# EAGLE library part DIL14-6 (library mylib)
DIL15-6 DIL 14PIN 600mil
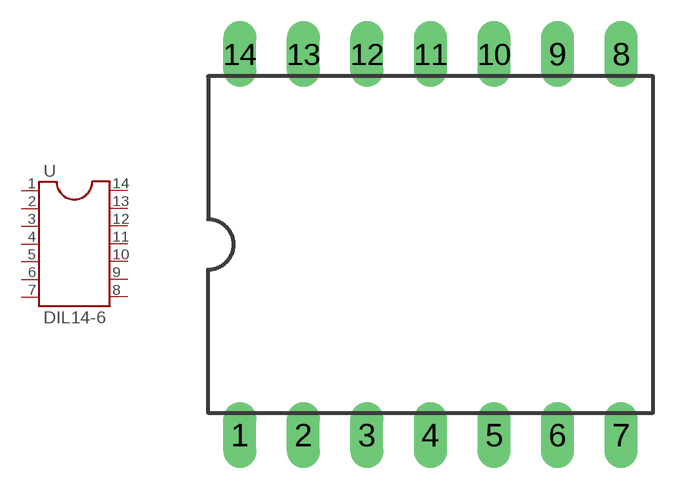
[diagram p0: symbol with the pads of DIL14-6; footprint DIL14-6]

Designator prefix -

## DIL14-6  [DIL14-6]
1  1  pas
2  2  pas
3  3  pas
4  4  pas
5  5  pas
6  6  pas
7  7  pas
8  8  pas
9  9  pas
10  10  pas
11  11  pas
12  12  pas
13  13  pas
14  14  pas

## Footprint DIL14-6 (pad centres in mm)
drill 0.813 long: 1 -7.62,-5.08; 2 -5.08,-5.08; 3 -2.54,-5.08; 4 0,-5.08; 5 2.54,-5.08; 6 5.08,-5.08; 7 7.62,-5.08; 8 7.62,10.16; 9 5.08,10.16; 10 2.54,10.16; 11 0,10.16; 12 -2.54,10.16; 13 -5.08,10.16; 14 -7.62,10.16